# EAGLE library part VFT7H (library NewSDR)
Dual TCVCXO and VCXO Layout for Valpey Fisher VFT7H and Silicon Laboratories Si550 Oscillators Si550 located inside VFT7H
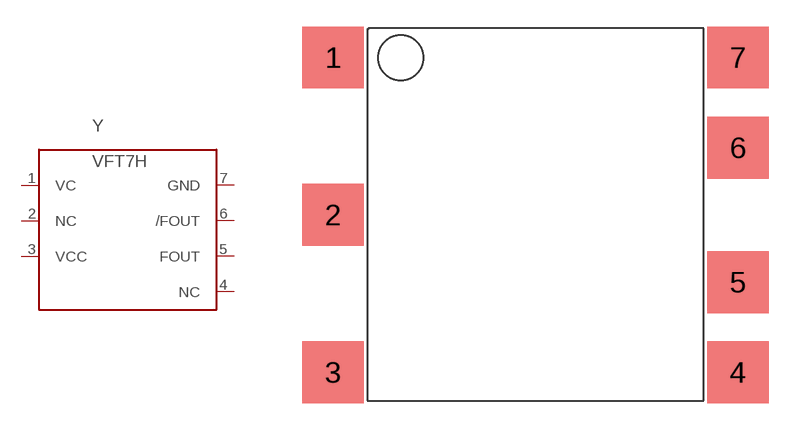
[diagram p21: symbol with the pads of VFT7H; footprint VFT7H]

Designator prefix Y

## VFT7H  [VFT7H]
1  VC  in
2  NC  nc
3  VCC  pwr
4  NC  nc
5  FOUT  pas
6  /FOUT  pas
7  GND  pwr

## Footprint VFT7H (pad centres in mm)
Valpey Fisher VFT7H Package
smd 3.5 x 3.5: 1 -11.45,8.9; 2 -11.45,0; 3 -11.45,-8.9; 4 11.45,-8.9; 5 11.45,-3.8; 6 11.45,3.8; 7 11.45,8.9